# Altium schematic symbol library QAxCx.SchLib: 1 symbol
Pins are listed as number, name and electrical type; pins without a type are passive.

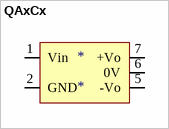
[diagram p0: symbol QAxCx]

## QAxCx
designator *
footprint QAxCx (Footprint not found)
pins: 1 Vin, 2 GND, 5 -Vo, 6 0V, 7 +Vo